# EAGLE library part OLED_UG-9664HDDAG01 (library microbuilder)
OLED 96x64 Pixel, 0.95" 65K Color
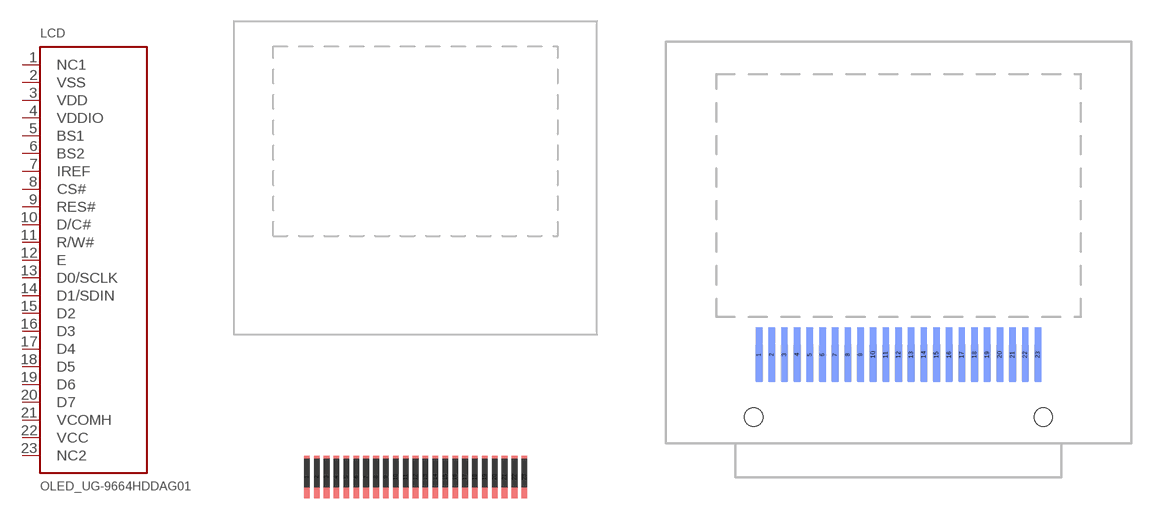
[diagram p91: symbol with the pads of UG-9664HDDAG01; footprints UG-9664HDDAG01, UG-9664HDDAG01_WRAPAROUND]

Designator prefix LCD

## OLED_UG-9664HDDAG01  [UG-9664HDDAG01]
1  NC1  nc
2  VSS
3  VDD
4  VDDIO
5  BS1
6  BS2
7  IREF
8  CS#
9  RES#
10  D/C#
11  R/W#
12  E
13  D0/SCLK
14  D1/SDIN
15  D2
16  D3
17  D4
18  D5
19  D6
20  D7
21  VCOMH
22  VCC
23  NC2  nc

## OLED_UG-9664HDDAG01WRAPAROUND  [UG-9664HDDAG01_WRAPAROUND]
Pads as for UG-9664HDDAG01

## OLED_UG-9664HDDAG01WA_NOHOLES  [UG-9664HDDAG01_WRAPAROUND_NOHOLES]
Pads as for UG-9664HDDAG01

## Footprint UG-9664HDDAG01 (pad centres in mm)
96x64 RGB OLED Display - 0.95" (25.7x22.2mm)
smd 0.4 x 3: 1 -7.7,0.7; 2 -7,0.7; 3 -6.3,0.7; 4 -5.6,0.7; 5 -4.9,0.7; 6 -4.2,0.7; 7 -3.5,0.7; 8 -2.8,0.7; 9 -2.1,0.7; 10 -1.4,0.7; 11 -0.7,0.7; 12 0,0.7; 13 0.7,0.7; 14 1.4,0.7; 15 2.1,0.7; 16 2.8,0.7; 17 3.5,0.7; 18 4.2,0.7; 19 4.9,0.7; 20 5.6,0.7; 21 6.3,0.7; 22 7,0.7; 23 7.7,0.7

## Footprint UG-9664HDDAG01_WRAPAROUND (pad centres in mm)
smd 0.35 x 3 bottom: 1 -7.7,4.9; 2 -7,4.9; 3 -6.3,4.9; 4 -5.6,4.9; 5 -4.9,4.9; 6 -4.2,4.9; 7 -3.5,4.9; 8 -2.8,4.9; 9 -2.1,4.9; 10 -1.4,4.9; 11 -0.7,4.9; 12 0,4.9; 13 0.7,4.9; 14 1.4,4.9; 15 2.1,4.9; 16 2.8,4.9; 17 3.5,4.9; 18 4.2,4.9; 19 4.9,4.9; 20 5.6,4.9; 21 6.3,4.9; 22 7,4.9; 23 7.7,4.9
hole 1 at -8,1.45
hole 1 at 8,1.45

## Footprint UG-9664HDDAG01_WRAPAROUND_NOHOLES (pad centres in mm)
smd 0.35 x 3 bottom: 1 -7.7,4.9; 2 -7,4.9; 3 -6.3,4.9; 4 -5.6,4.9; 5 -4.9,4.9; 6 -4.2,4.9; 7 -3.5,4.9; 8 -2.8,4.9; 9 -2.1,4.9; 10 -1.4,4.9; 11 -0.7,4.9; 12 0,4.9; 13 0.7,4.9; 14 1.4,4.9; 15 2.1,4.9; 16 2.8,4.9; 17 3.5,4.9; 18 4.2,4.9; 19 4.9,4.9; 20 5.6,4.9; 21 6.3,4.9; 22 7,4.9; 23 7.7,4.9